# EAGLE library part ANALOG_DEVICES_ADV3201ASWZ (library HEXABITZ_ICs)
ADI-ADV3201-SW-176-1
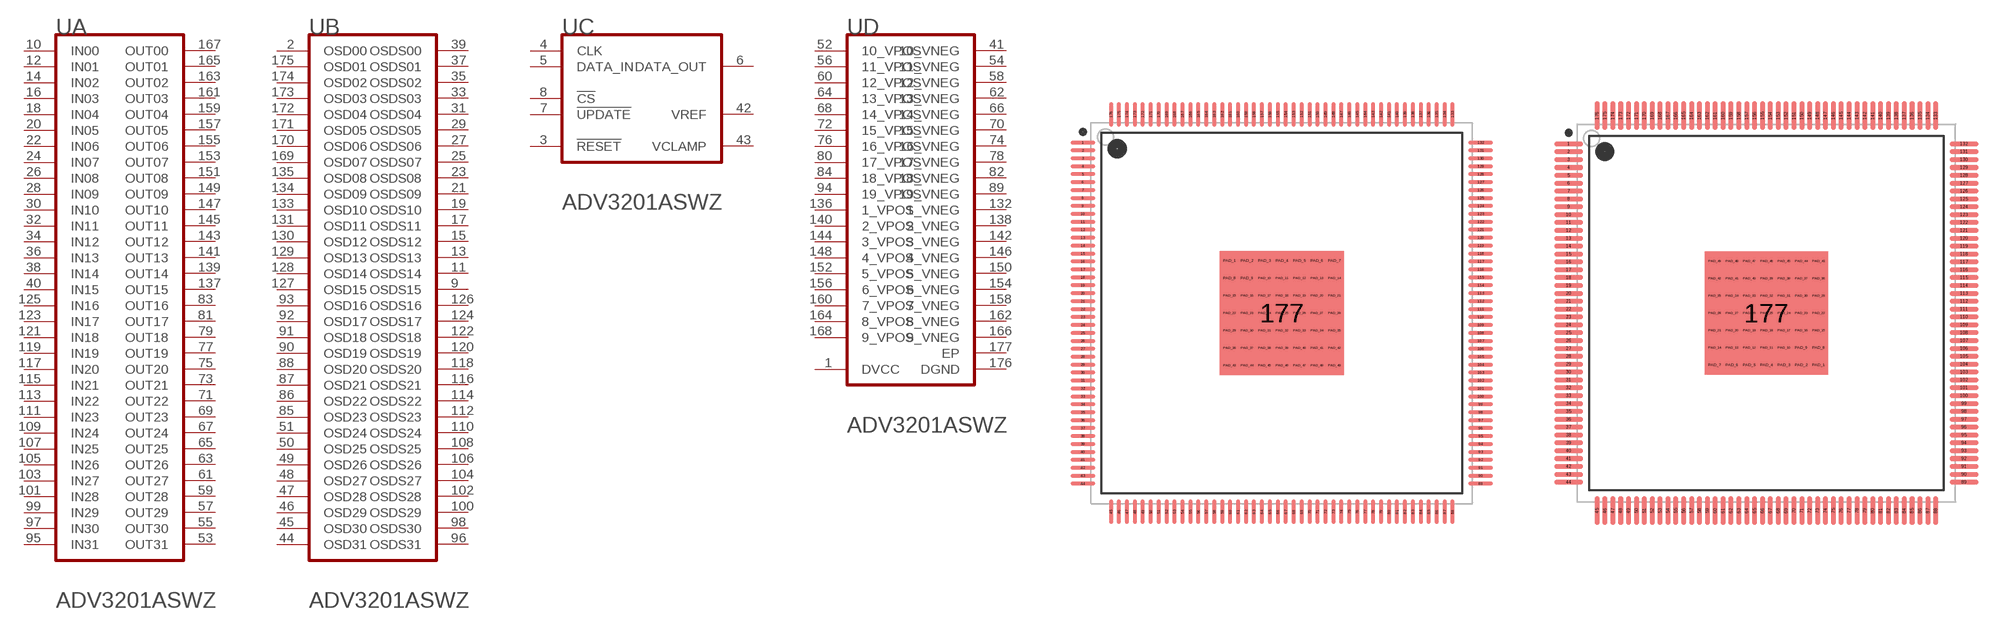
[diagram p14: symbol with the pads of ANALOG_DEVICES_ADV3201ASWZ_0; footprints ANALOG_DEVICES_ADV3201ASWZ_0, ANALOG_DEVICES_ADV3201ASWZ_1]

Designator prefix U; gates A=ANALOG_DEVICES_ADV3201ASWZ_0_0 B=ANALOG_DEVICES_ADV3201ASWZ_0_1 C=ANALOG_DEVICES_ADV3201ASWZ_0_2 D=ANALOG_DEVICES_ADV3201ASWZ_0_3

## ANALOG_DEVICES_ADV3201ASWZANALOG_DEVICES_ADV3201ASWZ_0_0 (CIIVA_IDS: 2293078; CODE__JEDEC: MS-026-BGA-HD; COMPONENT_LINK_1_DESCRIPTION: Manufacturer URL; COMPONENT_LINK_1_URL: http://www.analog.com/en/index.html; COMPONENT_LINK_3_DESCRIPTION: Package Specification; COMPONENT_LINK_3_URL: http://www.analog.com/static/imported-files/packages/PKG_PDF/LQFP_ED(SW)/SW_176_1.pdf; CONTROL_INTERFACE: Serial; DATASHEET: http://www.analog.com/static/imported-files/data_sheets/ADV3200_ADV3201.pdf; DATASHEET_VERSION: Rev. 0; FOOTPRINT_VARIANT_NAME_0: Level C; FOOTPRINT_VARIANT_NAME_1: Level B; FOOTPRINT_VARIANT_NAME_2: Level A; IMPORTED: yes; IMPORTED_FROM: vault; IMPORT_TS: 1521865250; MF: Analog Devices; MOUNTING_TECHNOLOGY: Surface Mount; MPN: ADV3201ASWZ; OUTPUT_BUFFER: Yes G = 2; PACKAGE: SW-176-1; PACKAGE_DESCRIPTION: 176-Pin Low Profile Quad Flat Package, Body 24 x 24 mm, Pitch 0.5 mm; PACKAGE_VERSION: 080907-A, 08/2007; PACKING: Tray; PIN_0_2_1_INSIDE_EDGE: clock; PREFIX: U; RELEASE_DATE: 1391089396; SLEW_RATE_VUS: 400; SMALL_SIGNAL_BW_MHZ: 300; SUPPLY_VOLTAGE_V: +/-2.5; VAULT_GUID: CB3F8638-87AB-480F-95F8-F1861EF92701; VAULT_REVISION: DB0CB6B4-372A-4EDE-9B59-0BFA1A1C664B)  [ANALOG_DEVICES_ADV3201ASWZ_0]
1  D:DVCC  pwr
2  B:OSD00  in
3  C:!RESET!  in
4  C:CLK  in
5  C:DATA_IN  in
6  C:DATA_OUT  out
7  C:!UPDATE!  in
8  C:!CS!  in
9  B:OSDS15  in
10  A:IN00  in
11  B:OSDS14  in
12  A:IN01  in
13  B:OSDS13  in
14  A:IN02  in
15  B:OSDS12  in
16  A:IN03  in
17  B:OSDS11  in
18  A:IN04  in
19  B:OSDS10  in
20  A:IN05  in
21  B:OSDS09  in
22  A:IN06  in
23  B:OSDS08  in
24  A:IN07  in
25  B:OSDS07  in
26  A:IN08  in
27  B:OSDS06  in
28  A:IN09  in
29  B:OSDS05  in
30  A:IN10  in
31  B:OSDS04  in
32  A:IN11  in
33  B:OSDS03  in
34  A:IN12  in
35  B:OSDS02  in
36  A:IN13  in
37  B:OSDS01  in
38  A:IN14  in
39  B:OSDS00  in
40  A:IN15  in
41  D:10_VNEG  pwr
42  C:VREF  in
43  C:VCLAMP  in
44  B:OSD31  in
45  B:OSD30  in
46  B:OSD29  in
47  B:OSD28  in
48  B:OSD27  in
49  B:OSD26  in
50  B:OSD25  in
51  B:OSD24  in
52  D:10_VPOS  pwr
53  A:OUT31  hiz
54  D:11_VNEG  pwr
55  A:OUT30  hiz
56  D:11_VPOS  pwr
57  A:OUT29  hiz
58  D:12_VNEG  pwr
59  A:OUT28  hiz
60  D:12_VPOS  pwr
61  A:OUT27  hiz
62  D:13_VNEG  pwr
63  A:OUT26  hiz
64  D:13_VPOS  pwr
65  A:OUT25  hiz
66  D:14_VNEG  pwr
67  A:OUT24  hiz
68  D:14_VPOS  pwr
69  A:OUT23  hiz
70  D:15_VNEG  pwr
71  A:OUT22  hiz
72  D:15_VPOS  pwr
73  A:OUT21  hiz
74  D:16_VNEG  pwr
75  A:OUT20  hiz
76  D:16_VPOS  pwr
77  A:OUT19  hiz
78  D:17_VNEG  pwr
79  A:OUT18  hiz
80  D:17_VPOS  pwr
81  A:OUT17  hiz
82  D:18_VNEG  pwr
83  A:OUT16  hiz
84  D:18_VPOS  pwr
85  B:OSD23  in
86  B:OSD22  in
87  B:OSD21  in
88  B:OSD20  in
89  D:19_VNEG  pwr
90  B:OSD19  in
91  B:OSD18  in
92  B:OSD17  in
93  B:OSD16  in
94  D:19_VPOS  pwr
95  A:IN31  in
96  B:OSDS31  in
97  A:IN30  in
98  B:OSDS30  in
99  A:IN29  in
100  B:OSDS29  in
101  A:IN28  in
102  B:OSDS28  in
103  A:IN27  in
104  B:OSDS27  in
105  A:IN26  in
106  B:OSDS26  in
107  A:IN25  in
108  B:OSDS25  in
109  A:IN24  in
110  B:OSDS24  in
111  A:IN23  in
112  B:OSDS23  in
113  A:IN22  in
114  B:OSDS22  in
115  A:IN21  in
116  B:OSDS21  in
117  A:IN20  in
118  B:OSDS20  in
119  A:IN19  in
120  B:OSDS19  in
121  A:IN18  in
122  B:OSDS18  in
123  A:IN17  in
124  B:OSDS17  in
125  A:IN16  in
126  B:OSDS16  in
127  B:OSD15  in
128  B:OSD14  in
129  B:OSD13  in
130  B:OSD12  in
131  B:OSD11  in
132  D:1_VNEG  pwr
133  B:OSD10  in
134  B:OSD09  in
135  B:OSD08  in
136  D:1_VPOS  pwr
137  A:OUT15  hiz
138  D:2_VNEG  pwr
139  A:OUT14  hiz
140  D:2_VPOS  pwr
141  A:OUT13  hiz
142  D:3_VNEG  pwr
143  A:OUT12  hiz
144  D:3_VPOS  pwr
145  A:OUT11  hiz
146  D:4_VNEG  pwr
147  A:OUT10  hiz
148  D:4_VPOS  pwr
149  A:OUT09  hiz
150  D:5_VNEG  pwr
151  A:OUT08  hiz
152  D:5_VPOS  pwr
153  A:OUT07  hiz
154  D:6_VNEG  pwr
155  A:OUT06  hiz
156  D:6_VPOS  pwr
157  A:OUT05  hiz
158  D:7_VNEG  pwr
159  A:OUT04  hiz
160  D:7_VPOS  pwr
161  A:OUT03  hiz
162  D:8_VNEG  pwr
163  A:OUT02  hiz
164  D:8_VPOS  pwr
165  A:OUT01  hiz
166  D:9_VNEG  pwr
167  A:OUT00  hiz
168  D:9_VPOS  pwr
169  B:OSD07  in
170  B:OSD06  in
171  B:OSD05  in
172  B:OSD04  in
173  B:OSD03  in
174  B:OSD02  in
175  B:OSD01  in
176  D:DGND  pwr
177  D:EP  pwr

## ANALOG_DEVICES_ADV3201ASWZANALOG_DEVICES_ADV3201ASWZ_0_1 (CIIVA_IDS: 2293078; CODE__JEDEC: MS-026-BGA-HD; COMPONENT_LINK_1_DESCRIPTION: Manufacturer URL; COMPONENT_LINK_1_URL: http://www.analog.com/en/index.html; COMPONENT_LINK_3_DESCRIPTION: Package Specification; COMPONENT_LINK_3_URL: http://www.analog.com/static/imported-files/packages/PKG_PDF/LQFP_ED(SW)/SW_176_1.pdf; CONTROL_INTERFACE: Serial; DATASHEET: http://www.analog.com/static/imported-files/data_sheets/ADV3200_ADV3201.pdf; DATASHEET_VERSION: Rev. 0; FOOTPRINT_VARIANT_NAME_0: Level C; FOOTPRINT_VARIANT_NAME_1: Level B; FOOTPRINT_VARIANT_NAME_2: Level A; IMPORTED: yes; IMPORTED_FROM: vault; IMPORT_TS: 1521865250; MF: Analog Devices; MOUNTING_TECHNOLOGY: Surface Mount; MPN: ADV3201ASWZ; OUTPUT_BUFFER: Yes G = 2; PACKAGE: SW-176-1; PACKAGE_DESCRIPTION: 176-Pin Low Profile Quad Flat Package, Body 24 x 24 mm, Pitch 0.5 mm; PACKAGE_VERSION: 080907-A, 08/2007; PACKING: Tray; PIN_0_2_1_INSIDE_EDGE: clock; PREFIX: U; RELEASE_DATE: 1391089396; SLEW_RATE_VUS: 400; SMALL_SIGNAL_BW_MHZ: 300; SUPPLY_VOLTAGE_V: +/-2.5; VAULT_GUID: CB3F8638-87AB-480F-95F8-F1861EF92701; VAULT_REVISION: DB0CB6B4-372A-4EDE-9B59-0BFA1A1C664B)  [ANALOG_DEVICES_ADV3201ASWZ_1]
Pads as for ANALOG_DEVICES_ADV3201ASWZ_0

## ANALOG_DEVICES_ADV3201ASWZANALOG_DEVICES_ADV3201ASWZ_0_2 (CIIVA_IDS: 2293078; CODE__JEDEC: MS-026-BGA-HD; COMPONENT_LINK_1_DESCRIPTION: Manufacturer URL; COMPONENT_LINK_1_URL: http://www.analog.com/en/index.html; COMPONENT_LINK_3_DESCRIPTION: Package Specification; COMPONENT_LINK_3_URL: http://www.analog.com/static/imported-files/packages/PKG_PDF/LQFP_ED(SW)/SW_176_1.pdf; CONTROL_INTERFACE: Serial; DATASHEET: http://www.analog.com/static/imported-files/data_sheets/ADV3200_ADV3201.pdf; DATASHEET_VERSION: Rev. 0; FOOTPRINT_VARIANT_NAME_0: Level C; FOOTPRINT_VARIANT_NAME_1: Level B; FOOTPRINT_VARIANT_NAME_2: Level A; IMPORTED: yes; IMPORTED_FROM: vault; IMPORT_TS: 1521865250; MF: Analog Devices; MOUNTING_TECHNOLOGY: Surface Mount; MPN: ADV3201ASWZ; OUTPUT_BUFFER: Yes G = 2; PACKAGE: SW-176-1; PACKAGE_DESCRIPTION: 176-Pin Low Profile Quad Flat Package, Body 24 x 24 mm, Pitch 0.5 mm; PACKAGE_VERSION: 080907-A, 08/2007; PACKING: Tray; PIN_0_2_1_INSIDE_EDGE: clock; PREFIX: U; RELEASE_DATE: 1391089396; SLEW_RATE_VUS: 400; SMALL_SIGNAL_BW_MHZ: 300; SUPPLY_VOLTAGE_V: +/-2.5; VAULT_GUID: CB3F8638-87AB-480F-95F8-F1861EF92701; VAULT_REVISION: DB0CB6B4-372A-4EDE-9B59-0BFA1A1C664B)  [ANALOG_DEVICES_ADV3201ASWZ_2]
Pads as for ANALOG_DEVICES_ADV3201ASWZ_0

## Footprint ANALOG_DEVICES_ADV3201ASWZ_0 (pad centres in mm)
ADI-ADV3201-SW-176-1
smd 1.55 x 0.25: 1 -12.525,10.75; 2 -12.525,10.25; 3 -12.525,9.75; 4 -12.525,9.25; 5 -12.525,8.75; 6 -12.525,8.25; 7 -12.525,7.75; 8 -12.525,7.25; 9 -12.525,6.75; 10 -12.525,6.25; 11 -12.525,5.75; 12 -12.525,5.25; 13 -12.525,4.75; 14 -12.525,4.25; 15 -12.525,3.75; 16 -12.525,3.25; 17 -12.525,2.75; 18 -12.525,2.25; 19 -12.525,1.75; 20 -12.525,1.25; 21 -12.525,0.75; 22 -12.525,0.25; 23 -12.525,-0.25; 24 -12.525,-0.75; 25 -12.525,-1.25; 26 -12.525,-1.75; 27 -12.525,-2.25; 28 -12.525,-2.75; 29 -12.525,-3.25; 30 -12.525,-3.75; 31 -12.525,-4.25; 32 -12.525,-4.75; 33 -12.525,-5.25; 34 -12.525,-5.75; 35 -12.525,-6.25; 36 -12.525,-6.75; 37 -12.525,-7.25; 38 -12.525,-7.75; 39 -12.525,-8.25; 40 -12.525,-8.75; 41 -12.525,-9.25; 42 -12.525,-9.75; 43 -12.525,-10.25; 44 -12.525,-10.75; 89 12.525,-10.75; 90 12.525,-10.25; 91 12.525,-9.75; 92 12.525,-9.25; 93 12.525,-8.75; 94 12.525,-8.25; 95 12.525,-7.75; 96 12.525,-7.25; 97 12.525,-6.75; 98 12.525,-6.25; 99 12.525,-5.75; 100 12.525,-5.25; 101 12.525,-4.75; 102 12.525,-4.25; 103 12.525,-3.75; 104 12.525,-3.25; 105 12.525,-2.75; 106 12.525,-2.25; 107 12.525,-1.75; 108 12.525,-1.25; 109 12.525,-0.75; 110 12.525,-0.25; 111 12.525,0.25; 112 12.525,0.75; 113 12.525,1.25; 114 12.525,1.75; 115 12.525,2.25; 116 12.525,2.75; 117 12.525,3.25; 118 12.525,3.75; 119 12.525,4.25; 120 12.525,4.75; 121 12.525,5.25; 122 12.525,5.75; 123 12.525,6.25; 124 12.525,6.75; 125 12.525,7.25; 126 12.525,7.75; 127 12.525,8.25; 128 12.525,8.75; 129 12.525,9.25; 130 12.525,9.75; 131 12.525,10.25; 132 12.525,10.75
smd 0.25 x 1.55: 45 -10.75,-12.525; 46 -10.25,-12.525; 47 -9.75,-12.525; 48 -9.25,-12.525; 49 -8.75,-12.525; 50 -8.25,-12.525; 51 -7.75,-12.525; 52 -7.25,-12.525; 53 -6.75,-12.525; 54 -6.25,-12.525; 55 -5.75,-12.525; 56 -5.25,-12.525; 57 -4.75,-12.525; 58 -4.25,-12.525; 59 -3.75,-12.525; 60 -3.25,-12.525; 61 -2.75,-12.525; 62 -2.25,-12.525; 63 -1.75,-12.525; 64 -1.25,-12.525; 65 -0.75,-12.525; 66 -0.25,-12.525; 67 0.25,-12.525; 68 0.75,-12.525; 69 1.25,-12.525; 70 1.75,-12.525; 71 2.25,-12.525; 72 2.75,-12.525; 73 3.25,-12.525; 74 3.75,-12.525; 75 4.25,-12.525; 76 4.75,-12.525; 77 5.25,-12.525; 78 5.75,-12.525; 79 6.25,-12.525; 80 6.75,-12.525; 81 7.25,-12.525; 82 7.75,-12.525; 83 8.25,-12.525; 84 8.75,-12.525; 85 9.25,-12.525; 86 9.75,-12.525; 87 10.25,-12.525; 88 10.75,-12.525; 133 10.75,12.525; 134 10.25,12.525; 135 9.75,12.525; 136 9.25,12.525; 137 8.75,12.525; 138 8.25,12.525; 139 7.75,12.525; 140 7.25,12.525; 141 6.75,12.525; 142 6.25,12.525; 143 5.75,12.525; 144 5.25,12.525; 145 4.75,12.525; 146 4.25,12.525; 147 3.75,12.525; 148 3.25,12.525; 149 2.75,12.525; 150 2.25,12.525; 151 1.75,12.525; 152 1.25,12.525; 153 0.75,12.525; 154 0.25,12.525; 155 -0.25,12.525; 156 -0.75,12.525; 157 -1.25,12.525; 158 -1.75,12.525; 159 -2.25,12.525; 160 -2.75,12.525; 161 -3.25,12.525; 162 -3.75,12.525; 163 -4.25,12.525; 164 -4.75,12.525; 165 -5.25,12.525; 166 -5.75,12.525; 167 -6.25,12.525; 168 -6.75,12.525; 169 -7.25,12.525; 170 -7.75,12.525; 171 -8.25,12.525; 172 -8.75,12.525; 173 -9.25,12.525; 174 -9.75,12.525; 175 -10.25,12.525; 176 -10.75,12.525
smd 7.8 x 7.8: 177 0,0
drill 0.2 pad 0.5: PAD_1 -3.3,3.3; PAD_2 -2.2,3.3; PAD_3 -1.1,3.3; PAD_4 0,3.3; PAD_5 1.1,3.3; PAD_6 2.2,3.3; PAD_7 3.3,3.3; PAD_8 -3.3,2.2; PAD_9 -2.2,2.2; PAD_10 -1.1,2.2; PAD_11 0,2.2; PAD_12 1.1,2.2; PAD_13 2.2,2.2; PAD_14 3.3,2.2; PAD_15 -3.3,1.1; PAD_16 -2.2,1.1; PAD_17 -1.1,1.1; PAD_18 0,1.1; PAD_19 1.1,1.1; PAD_20 2.2,1.1; PAD_21 3.3,1.1; PAD_22 -3.3,0; PAD_23 -2.2,0; PAD_24 -1.1,0; PAD_25 0,0; PAD_26 1.1,0; PAD_27 2.2,0; PAD_28 3.3,0; PAD_29 -3.3,-1.1; PAD_30 -2.2,-1.1; PAD_31 -1.1,-1.1; PAD_32 0,-1.1; PAD_33 1.1,-1.1; PAD_34 2.2,-1.1; PAD_35 3.3,-1.1; PAD_36 -3.3,-2.2; PAD_37 -2.2,-2.2; PAD_38 -1.1,-2.2; PAD_39 0,-2.2; PAD_40 1.1,-2.2; PAD_41 2.2,-2.2; PAD_42 3.3,-2.2; PAD_43 -3.3,-3.3; PAD_44 -2.2,-3.3; PAD_45 -1.1,-3.3; PAD_46 0,-3.3; PAD_47 1.1,-3.3; PAD_48 2.2,-3.3; PAD_49 3.3,-3.3

## Footprint ANALOG_DEVICES_ADV3201ASWZ_1 (pad centres in mm)
ADI-ADV3201-SW-176-1
smd 1.8 x 0.3: 1 -12.55,10.75; 2 -12.55,10.25; 3 -12.55,9.75; 4 -12.55,9.25; 5 -12.55,8.75; 6 -12.55,8.25; 7 -12.55,7.75; 8 -12.55,7.25; 9 -12.55,6.75; 10 -12.55,6.25; 11 -12.55,5.75; 12 -12.55,5.25; 13 -12.55,4.75; 14 -12.55,4.25; 15 -12.55,3.75; 16 -12.55,3.25; 17 -12.55,2.75; 18 -12.55,2.25; 19 -12.55,1.75; 20 -12.55,1.25; 21 -12.55,0.75; 22 -12.55,0.25; 23 -12.55,-0.25; 24 -12.55,-0.75; 25 -12.55,-1.25; 26 -12.55,-1.75; 27 -12.55,-2.25; 28 -12.55,-2.75; 29 -12.55,-3.25; 30 -12.55,-3.75; 31 -12.55,-4.25; 32 -12.55,-4.75; 33 -12.55,-5.25; 34 -12.55,-5.75; 35 -12.55,-6.25; 36 -12.55,-6.75; 37 -12.55,-7.25; 38 -12.55,-7.75; 39 -12.55,-8.25; 40 -12.55,-8.75; 41 -12.55,-9.25; 42 -12.55,-9.75; 43 -12.55,-10.25; 44 -12.55,-10.75; 89 12.55,-10.75; 90 12.55,-10.25; 91 12.55,-9.75; 92 12.55,-9.25; 93 12.55,-8.75; 94 12.55,-8.25; 95 12.55,-7.75; 96 12.55,-7.25; 97 12.55,-6.75; 98 12.55,-6.25; 99 12.55,-5.75; 100 12.55,-5.25; 101 12.55,-4.75; 102 12.55,-4.25; 103 12.55,-3.75; 104 12.55,-3.25; 105 12.55,-2.75; 106 12.55,-2.25; 107 12.55,-1.75; 108 12.55,-1.25; 109 12.55,-0.75; 110 12.55,-0.25; 111 12.55,0.25; 112 12.55,0.75; 113 12.55,1.25; 114 12.55,1.75; 115 12.55,2.25; 116 12.55,2.75; 117 12.55,3.25; 118 12.55,3.75; 119 12.55,4.25; 120 12.55,4.75; 121 12.55,5.25; 122 12.55,5.75; 123 12.55,6.25; 124 12.55,6.75; 125 12.55,7.25; 126 12.55,7.75; 127 12.55,8.25; 128 12.55,8.75; 129 12.55,9.25; 130 12.55,9.75; 131 12.55,10.25; 132 12.55,10.75
smd 0.3 x 1.8: 45 -10.75,-12.55; 46 -10.25,-12.55; 47 -9.75,-12.55; 48 -9.25,-12.55; 49 -8.75,-12.55; 50 -8.25,-12.55; 51 -7.75,-12.55; 52 -7.25,-12.55; 53 -6.75,-12.55; 54 -6.25,-12.55; 55 -5.75,-12.55; 56 -5.25,-12.55; 57 -4.75,-12.55; 58 -4.25,-12.55; 59 -3.75,-12.55; 60 -3.25,-12.55; 61 -2.75,-12.55; 62 -2.25,-12.55; 63 -1.75,-12.55; 64 -1.25,-12.55; 65 -0.75,-12.55; 66 -0.25,-12.55; 67 0.25,-12.55; 68 0.75,-12.55; 69 1.25,-12.55; 70 1.75,-12.55; 71 2.25,-12.55; 72 2.75,-12.55; 73 3.25,-12.55; 74 3.75,-12.55; 75 4.25,-12.55; 76 4.75,-12.55; 77 5.25,-12.55; 78 5.75,-12.55; 79 6.25,-12.55; 80 6.75,-12.55; 81 7.25,-12.55; 82 7.75,-12.55; 83 8.25,-12.55; 84 8.75,-12.55; 85 9.25,-12.55; 86 9.75,-12.55; 87 10.25,-12.55; 88 10.75,-12.55; 133 10.75,12.55; 134 10.25,12.55; 135 9.75,12.55; 136 9.25,12.55; 137 8.75,12.55; 138 8.25,12.55; 139 7.75,12.55; 140 7.25,12.55; 141 6.75,12.55; 142 6.25,12.55; 143 5.75,12.55; 144 5.25,12.55; 145 4.75,12.55; 146 4.25,12.55; 147 3.75,12.55; 148 3.25,12.55; 149 2.75,12.55; 150 2.25,12.55; 151 1.75,12.55; 152 1.25,12.55; 153 0.75,12.55; 154 0.25,12.55; 155 -0.25,12.55; 156 -0.75,12.55; 157 -1.25,12.55; 158 -1.75,12.55; 159 -2.25,12.55; 160 -2.75,12.55; 161 -3.25,12.55; 162 -3.75,12.55; 163 -4.25,12.55; 164 -4.75,12.55; 165 -5.25,12.55; 166 -5.75,12.55; 167 -6.25,12.55; 168 -6.75,12.55; 169 -7.25,12.55; 170 -7.75,12.55; 171 -8.25,12.55; 172 -8.75,12.55; 173 -9.25,12.55; 174 -9.75,12.55; 175 -10.25,12.55; 176 -10.75,12.55
smd 7.8 x 7.8: 177 0,0
drill 0.2 pad 0.5: PAD_1 3.3,-3.3; PAD_2 2.2,-3.3; PAD_3 1.1,-3.3; PAD_4 0,-3.3; PAD_5 -1.1,-3.3; PAD_6 -2.2,-3.3; PAD_7 -3.3,-3.3; PAD_8 3.3,-2.2; PAD_9 2.2,-2.2; PAD_10 1.1,-2.2; PAD_11 0,-2.2; PAD_12 -1.1,-2.2; PAD_13 -2.2,-2.2; PAD_14 -3.3,-2.2; PAD_15 3.3,-1.1; PAD_16 2.2,-1.1; PAD_17 1.1,-1.1; PAD_18 0,-1.1; PAD_19 -1.1,-1.1; PAD_20 -2.2,-1.1; PAD_21 -3.3,-1.1; PAD_22 3.3,0; PAD_23 2.2,0; PAD_24 1.1,0; PAD_25 0,0; PAD_26 -1.1,0; PAD_27 -2.2,0; PAD_28 -3.3,0; PAD_29 3.3,1.1; PAD_30 2.2,1.1; PAD_31 1.1,1.1; PAD_32 0,1.1; PAD_33 -1.1,1.1; PAD_34 -2.2,1.1; PAD_35 -3.3,1.1; PAD_36 3.3,2.2; PAD_37 2.2,2.2; PAD_38 1.1,2.2; PAD_39 0,2.2; PAD_40 -1.1,2.2; PAD_41 -2.2,2.2; PAD_42 -3.3,2.2; PAD_43 3.3,3.3; PAD_44 2.2,3.3; PAD_45 1.1,3.3; PAD_46 0,3.3; PAD_47 -1.1,3.3; PAD_48 -2.2,3.3; PAD_49 -3.3,3.3

## Footprint ANALOG_DEVICES_ADV3201ASWZ_2 (pad centres in mm)
ADI-ADV3201-SW-176-1
smd 2.1 x 0.3: 1 -12.6,10.75; 2 -12.6,10.25; 3 -12.6,9.75; 4 -12.6,9.25; 5 -12.6,8.75; 6 -12.6,8.25; 7 -12.6,7.75; 8 -12.6,7.25; 9 -12.6,6.75; 10 -12.6,6.25; 11 -12.6,5.75; 12 -12.6,5.25; 13 -12.6,4.75; 14 -12.6,4.25; 15 -12.6,3.75; 16 -12.6,3.25; 17 -12.6,2.75; 18 -12.6,2.25; 19 -12.6,1.75; 20 -12.6,1.25; 21 -12.6,0.75; 22 -12.6,0.25; 23 -12.6,-0.25; 24 -12.6,-0.75; 25 -12.6,-1.25; 26 -12.6,-1.75; 27 -12.6,-2.25; 28 -12.6,-2.75; 29 -12.6,-3.25; 30 -12.6,-3.75; 31 -12.6,-4.25; 32 -12.6,-4.75; 33 -12.6,-5.25; 34 -12.6,-5.75; 35 -12.6,-6.25; 36 -12.6,-6.75; 37 -12.6,-7.25; 38 -12.6,-7.75; 39 -12.6,-8.25; 40 -12.6,-8.75; 41 -12.6,-9.25; 42 -12.6,-9.75; 43 -12.6,-10.25; 44 -12.6,-10.75; 89 12.6,-10.75; 90 12.6,-10.25; 91 12.6,-9.75; 92 12.6,-9.25; 93 12.6,-8.75; 94 12.6,-8.25; 95 12.6,-7.75; 96 12.6,-7.25; 97 12.6,-6.75; 98 12.6,-6.25; 99 12.6,-5.75; 100 12.6,-5.25; 101 12.6,-4.75; 102 12.6,-4.25; 103 12.6,-3.75; 104 12.6,-3.25; 105 12.6,-2.75; 106 12.6,-2.25; 107 12.6,-1.75; 108 12.6,-1.25; 109 12.6,-0.75; 110 12.6,-0.25; 111 12.6,0.25; 112 12.6,0.75; 113 12.6,1.25; 114 12.6,1.75; 115 12.6,2.25; 116 12.6,2.75; 117 12.6,3.25; 118 12.6,3.75; 119 12.6,4.25; 120 12.6,4.75; 121 12.6,5.25; 122 12.6,5.75; 123 12.6,6.25; 124 12.6,6.75; 125 12.6,7.25; 126 12.6,7.75; 127 12.6,8.25; 128 12.6,8.75; 129 12.6,9.25; 130 12.6,9.75; 131 12.6,10.25; 132 12.6,10.75
smd 0.3 x 2.1: 45 -10.75,-12.6; 46 -10.25,-12.6; 47 -9.75,-12.6; 48 -9.25,-12.6; 49 -8.75,-12.6; 50 -8.25,-12.6; 51 -7.75,-12.6; 52 -7.25,-12.6; 53 -6.75,-12.6; 54 -6.25,-12.6; 55 -5.75,-12.6; 56 -5.25,-12.6; 57 -4.75,-12.6; 58 -4.25,-12.6; 59 -3.75,-12.6; 60 -3.25,-12.6; 61 -2.75,-12.6; 62 -2.25,-12.6; 63 -1.75,-12.6; 64 -1.25,-12.6; 65 -0.75,-12.6; 66 -0.25,-12.6; 67 0.25,-12.6; 68 0.75,-12.6; 69 1.25,-12.6; 70 1.75,-12.6; 71 2.25,-12.6; 72 2.75,-12.6; 73 3.25,-12.6; 74 3.75,-12.6; 75 4.25,-12.6; 76 4.75,-12.6; 77 5.25,-12.6; 78 5.75,-12.6; 79 6.25,-12.6; 80 6.75,-12.6; 81 7.25,-12.6; 82 7.75,-12.6; 83 8.25,-12.6; 84 8.75,-12.6; 85 9.25,-12.6; 86 9.75,-12.6; 87 10.25,-12.6; 88 10.75,-12.6; 133 10.75,12.6; 134 10.25,12.6; 135 9.75,12.6; 136 9.25,12.6; 137 8.75,12.6; 138 8.25,12.6; 139 7.75,12.6; 140 7.25,12.6; 141 6.75,12.6; 142 6.25,12.6; 143 5.75,12.6; 144 5.25,12.6; 145 4.75,12.6; 146 4.25,12.6; 147 3.75,12.6; 148 3.25,12.6; 149 2.75,12.6; 150 2.25,12.6; 151 1.75,12.6; 152 1.25,12.6; 153 0.75,12.6; 154 0.25,12.6; 155 -0.25,12.6; 156 -0.75,12.6; 157 -1.25,12.6; 158 -1.75,12.6; 159 -2.25,12.6; 160 -2.75,12.6; 161 -3.25,12.6; 162 -3.75,12.6; 163 -4.25,12.6; 164 -4.75,12.6; 165 -5.25,12.6; 166 -5.75,12.6; 167 -6.25,12.6; 168 -6.75,12.6; 169 -7.25,12.6; 170 -7.75,12.6; 171 -8.25,12.6; 172 -8.75,12.6; 173 -9.25,12.6; 174 -9.75,12.6; 175 -10.25,12.6; 176 -10.75,12.6
smd 7.8 x 7.8: 177 0,0
drill 0.2 pad 0.5: PAD_1 3.3,-3.3; PAD_2 2.2,-3.3; PAD_3 1.1,-3.3; PAD_4 0,-3.3; PAD_5 -1.1,-3.3; PAD_6 -2.2,-3.3; PAD_7 -3.3,-3.3; PAD_8 3.3,-2.2; PAD_9 2.2,-2.2; PAD_10 1.1,-2.2; PAD_11 0,-2.2; PAD_12 -1.1,-2.2; PAD_13 -2.2,-2.2; PAD_14 -3.3,-2.2; PAD_15 3.3,-1.1; PAD_16 2.2,-1.1; PAD_17 1.1,-1.1; PAD_18 0,-1.1; PAD_19 -1.1,-1.1; PAD_20 -2.2,-1.1; PAD_21 -3.3,-1.1; PAD_22 3.3,0; PAD_23 2.2,0; PAD_24 1.1,0; PAD_25 0,0; PAD_26 -1.1,0; PAD_27 -2.2,0; PAD_28 -3.3,0; PAD_29 3.3,1.1; PAD_30 2.2,1.1; PAD_31 1.1,1.1; PAD_32 0,1.1; PAD_33 -1.1,1.1; PAD_34 -2.2,1.1; PAD_35 -3.3,1.1; PAD_36 3.3,2.2; PAD_37 2.2,2.2; PAD_38 1.1,2.2; PAD_39 0,2.2; PAD_40 -1.1,2.2; PAD_41 -2.2,2.2; PAD_42 -3.3,2.2; PAD_43 3.3,3.3; PAD_44 2.2,3.3; PAD_45 1.1,3.3; PAD_46 0,3.3; PAD_47 -1.1,3.3; PAD_48 -2.2,3.3; PAD_49 -3.3,3.3